# EAGLE library part 22-28-4060-CN8 (library 22-28-4060-CN8)
MOLEX - 22-28-4060 - CONNECTOR, HEADER, 6POS, 1ROW, 2.54MM Source: Datasheet <https://www.molex.com/pdm_docs/sd/022284060_sd.pdf>
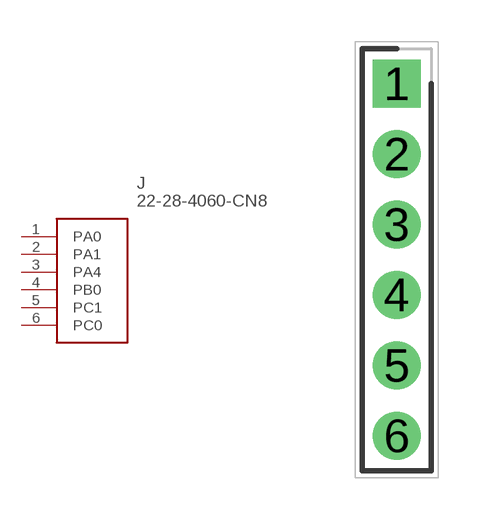
[diagram p0: symbol with the pads of HDRV6W66P0X254_1X6_1524X249X83-CN8; footprint HDRV6W66P0X254_1X6_1524X249X83-CN8]

Designator prefix J

## 22-28-4060-CN8 (DESCRIPTION: MOLEX - 22-28-4060 - CONNECTOR, HEADER, 6POS, 1ROW, 2.54MM; HEIGHT: 8.38mm; MANUFACTURER_NAME: Molex; MANUFACTURER_PART_NUMBER: 22-28-4060; MOUSER_PART_NUMBER: 538-22-28-4060; MOUSER_PRICE-STOCK: https://www.mouser.co.uk/ProductDetail/Molex/22-28-4060?qs=d9fIA1aNikSACgwI0d%252BTOw%3D%3D)  [HDRV6W66P0X254_1X6_1524X249X83-CN8]
1  PA0
2  PA1
3  PA4
4  PB0
5  PC1
6  PC0

## Footprint HDRV6W66P0X254_1X6_1524X249X83-CN8 (pad centres in mm)
22-28-4060
drill 1.15 pad 1.725 square: 1 0,6.35
drill 1.15 pad 1.725: 2 0,3.81; 3 0,1.27; 4 0,-1.27; 5 0,-3.81; 6 0,-6.35